# Altium footprint library LP5036.PcbLib: 1 footprints
Each footprint in its own frame and in the unit in brackets; x right, y up, seen from the top. Pads: shape width x height; smd on the part's side, far side on the other; paste and mask are expansions set on the pad; w line width, h text height; cw(c..) or ccw(c..) is an arc to the next point about the centre after c.
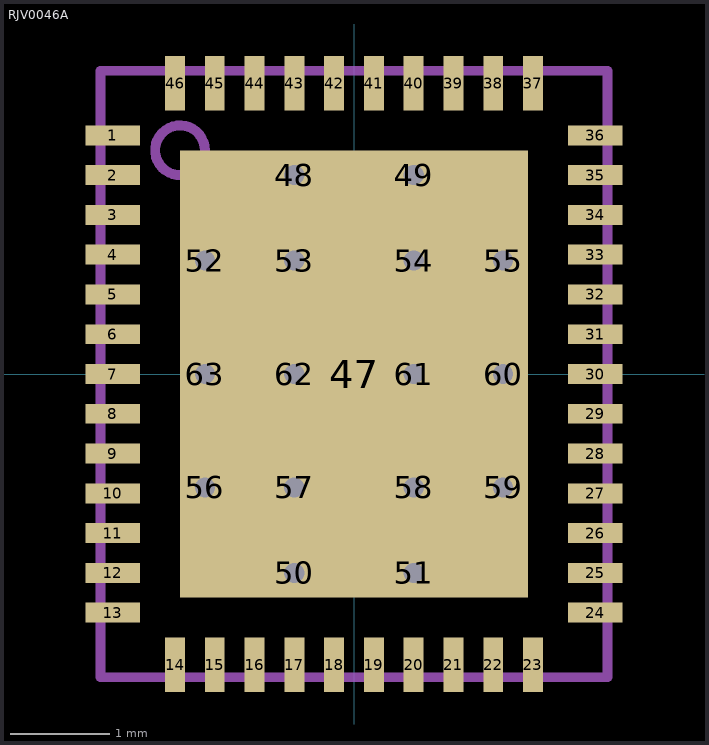
[diagram p0: the footprint, top view; thin cyan lines are the x and y axes]

## RJV0046A [mm]
pads (63):
  rect 0.55x0.2 smd: 1(-2.425,2.4) 2(-2.425,2) 3(-2.425,1.6) 4(-2.425,1.2) 5(-2.425,0.8) 6(-2.425,0.4) 7(-2.425,0) 8(-2.425,-0.4) 9(-2.425,-0.8) 10(-2.425,-1.2) 11(-2.425,-1.6) 12(-2.425,-2) 13(-2.425,-2.4) 24(2.425,-2.4) 25(2.425,-2) 26(2.425,-1.6) 27(2.425,-1.2) 28(2.425,-0.8) 29(2.425,-0.4) 30(2.425,0) 31(2.425,0.4) 32(2.425,0.8) 33(2.425,1.2) 34(2.425,1.6) 35(2.425,2) 36(2.425,2.4)
  rect 0.2x0.55 smd: 14(-1.8,-2.925) 15(-1.4,-2.925) 16(-1,-2.925) 17(-0.6,-2.925) 18(-0.2,-2.925) 19(0.2,-2.925) 20(0.6,-2.925) 21(1,-2.925) 22(1.4,-2.925) 23(1.8,-2.925) 37(1.8,2.925) 38(1.4,2.925) 39(1,2.925) 40(0.6,2.925) 41(0.2,2.925) 42(-0.2,2.925) 43(-0.6,2.925) 44(-1,2.925) 45(-1.4,2.925) 46(-1.8,2.925)
  rect 3.5x4.5 smd: 47(0,0)
  round 0.5 hole 0.203 mask-25.4: 48(-0.6,2) 49(0.6,2) 50(-0.6,-2) 51(0.6,-2) 52(-1.5,1.14) 53(-0.6,1.14) 54(0.6,1.14) 55(1.5,1.14) 56(-1.5,-1.14) 57(-0.6,-1.14) 58(0.6,-1.14) 59(1.5,-1.14) 60(1.5,0) 61(0.6,0) 62(-0.6,0) 63(-1.5,0)
Top Solder:
  drawing of 16 lines, arcs and shapes, not listed
Bottom Solder:
  drawing of 16 lines, arcs and shapes, not listed
Mechanical 1:
  circle w0.1: c-1.75,2.25 r0.25
  lines w0.1: -2.55,-3.05 -2.55,3.05 2.55,3.05 2.55,-3.05 -2.55,-3.05
  text ".Designator" at -1.75,-0.5 h0.79
Mechanical 16:
  circle w0.1: c-1.75,2.25 r0.25
  lines w0.1: -2.55,-3.05 -2.55,3.05 2.55,3.05 2.55,-3.05 -2.55,-3.05
  text ".Designator" at -1.75,-0.5 h0.79